# Altium integrated library HHM22137A2.IntLib: 1 symbol
Pins are listed as number, name and electrical type; pins without a type are passive.

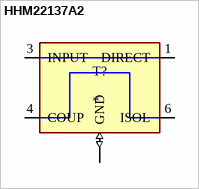
[diagram p0: symbol HHM22137A2]

## HHM22137A2
designator T?
RF Directional Coupler General Purpose 0603 (1608 Metric), 6 PC Pad; MF: TDK Corporation; MP: HHM22137A2; SnapEDA_Link: https://www.snapeda.com/parts/HHM22137A2/TDK/view-part/?ref=snap; Package: 0603 TDK Corporation; Value: *; Check_prices: https://www.snapeda.com/parts/HHM22137A2/TDK/view-part/?ref=eda
footprint HHM22137A2
pins: 1 DIRECT (io), 2 GND (io), 3 INPUT (io), 4 COUP (io), 5 GND (io), 6 ISOL (io)